# Altium schematic symbol library Schlib1.SchLib: 3 symbols
Pins are listed as number, name and electrical type; pins without a type are passive.

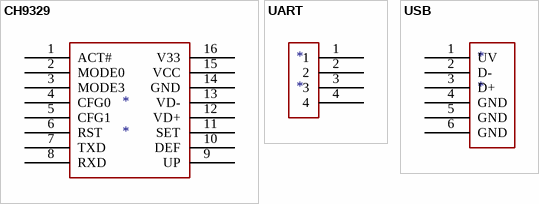
[diagram p0: symbols CH9329 to USB]

## CH9329
designator *
主控
footprint CH9329 (Footprint not found)
pins: 1 ACT#, 2 MODE0, 3 MODE3, 4 CFG0, 5 CFG1, 6 RST, 7 TXD, 8 RXD, 9 UP, 10 DEF, 11 SET, 12 VD+, 13 VD-, 14 GND, 15 VCC, 16 V33

## UART
designator *
串口
footprint UART (Footprint not found)
footprint UART (Footprint not found)
pins: 1, 2, 3, 4

## USB
designator *
USB
footprint USB (Footprint not found)
pins: 1 UV, 2 D-, 3 D+, 4 GND, 5 GND, 6 GND